# Altium schematic symbol library Inductors.SchLib: 3 symbols
Pins are listed as number, name and electrical type; pins without a type are passive.

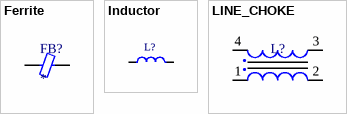
[diagram p0: symbols Ferrite to LINE_CHOKE]

## Ferrite
designator FB?
pins: 1, 2

## Inductor
designator L?
pins: 1, 2

## LINE_CHOKE
designator L?
pins: 1, 2, 3, 4